# Altium footprint library 002-0081 Rev -.PcbLib: 21 footprints (part 1 of 2)
Each footprint in its own frame and in the unit in brackets; x right, y up, seen from the top. Pads: shape width x height; smd on the part's side, far side on the other; paste and mask are expansions set on the pad; w line width, h text height; cw(c..) or ccw(c..) is an arc to the next point about the centre after c.
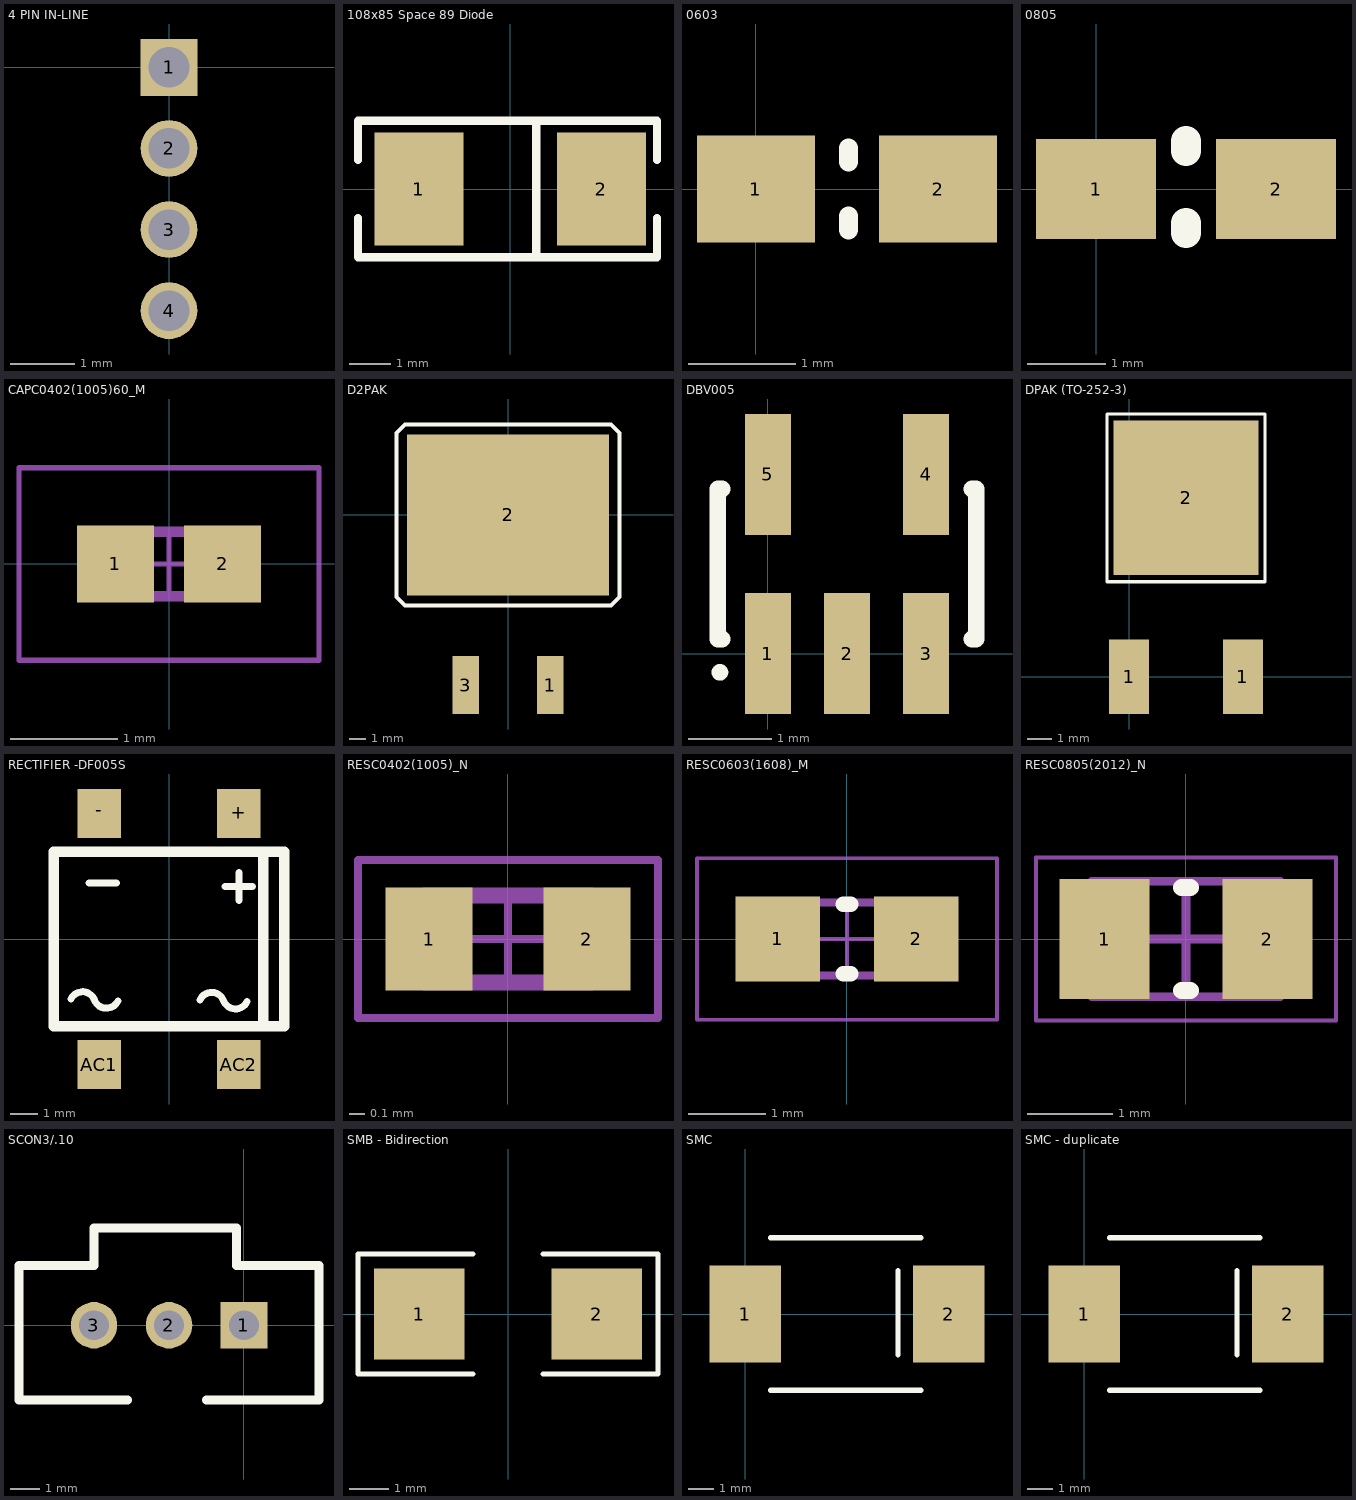
[diagram p0: the footprints below, top view; thin cyan lines are the x and y axes]

## 4 PIN IN-LINE [mil]
pads (4):
  rect 35x35 hole 25: 1(0,0)
  round 35 hole 25: 2(0,-50) 3(0,-100) 4(0,-150)

## 108x85 Space 89 Diode [mil]
height 213
pads (2):
  rect 85x108 smd: 1(-87,0) 2(87,0)
Top Overlay:
  lines w7.87: -145,-27.56 -145,-65 140,-65 140,-27.56 ; -145,27.56 -145,65 140,65 140,27.56 ; 25,-65 25,65

## 0603 [mm] "1.6 x .81 0603 with position tab for component rotation reference"
height 0.762
pads (2):
  rect 1.1x1 smd: 1(0,0) 2(1.7,0)
Top Overlay:
  lines w0.178: 0.864,-0.381 0.864,-0.254 ; 0.864,0.254 0.864,0.381

## 0805 [mil]
height 232
pads (2):
  rect 60x50 smd: 1(0,0) 2(90,0)
Top Overlay:
  lines w15: 45,-22 45,-17 ; 45,19 45,24

## CAPC0402(1005)60_M [mm] "Chip Capacitor, Body 1.0x0.5mm, Height 0.6mm, IPC Low Density"
height 0.6
pads (2):
  rect 0.72x0.72 smd: 1(-0.5,0) 2(0.5,0)
Mechanical 13:
  lines w0.1: -0.55,-0.3 -0.55,0.3 0.55,0.3 0.55,-0.3 -0.55,-0.3
Mechanical 15:
  lines w0.05: -0.3,0 0.3,0 ; 0,-0.3 0,0.3 ; -1.4,-0.9 -1.4,0.9 1.4,0.9 1.4,-0.9 -1.4,-0.9
3D body: height 0.6, standoff 0, extent -0.3,-0.3 0.3,0.3
3D body: height 0.6, standoff 0, extent -0.55,-0.3 -0.3,0.3
3D body: height 0.6, standoff 0, extent 0.3,-0.3 0.55,0.3

## D2PAK [mm]
pads (3):
  rect 1.6x3.5 smd: 1(2.54,-10.275) 3(-2.54,-10.275)
  rect 12.2x9.75 smd: 2(0,0)
Top Overlay:
  lines w0.254: -6.731,-4.953 -6.223,-5.461 6.223,-5.461 6.731,-4.953 6.731,4.953 6.223,5.461 -6.223,5.461 -6.731,4.953 -6.731,-4.953

## DBV005 [mm]
height 1.778
pads (5):
  rect 0.55x1.45 smd: 1(0,0) 2(0.95,0) 3(1.9,0) 4(1.9,2.15) 5(0,2.15)
Top Overlay:
  circle w0.1: c-0.575,-0.225 r0.05
  lines w0.2: -0.55,0.175 -0.6,0.175 -0.6,1.975 -0.55,1.975 ; 2.45,0.175 2.5,0.175 2.5,1.975 2.45,1.975

## DPAK (TO-252-3) [mm]
pads (3):
  rect 1.6x3 smd: 1(0,0) 1(4.572,0)
  rect 5.8x6.2 smd: 2(2.286,7.18)
Top Overlay:
  lines w0.127: -0.889,3.81 5.461,3.81 5.461,10.541 -0.889,10.541 -0.889,3.81

## RECTIFIER -DF005S [mil] "50 Amp Pk - 50 V"
height 157
pads (4):
  rect 63x70 smd: +(100,180) -(-100,180) AC1(-100,-180) AC2(100,-180)
Top Overlay:
  lines w10: -140.6,-86.18 cw(c-123.98,-93.86) -106.7,-87.78 ; -115,80 -75,80 ; -107,-87 ccw(c-89.73,-80.92) -73.1,-88.6 ; 44.4,-87.18 cw(c61.02,-94.86) 78.3,-88.78 ; 78,-88 ccw(c95.27,-81.92) 111.9,-89.6 ; 80,75 120,75 ; 100,55 100,95
  lines w15: 135,-125 135,125 ; -165,-125 165,-125 165,125 -165,125 -165,-125

## RESC0402(1005)_N [mm] "Chip Resistor, Body 1.0x0.5mm, IPC Medium Density"
height 0.4
pads (2):
  rect 0.55x0.65 smd: 1(-0.5,0) 2(0.5,0)
Mechanical 13:
  lines w0.1: -0.525,-0.275 -0.525,0.275 0.525,0.275 0.525,-0.275 -0.525,-0.275
Mechanical 15:
  lines w0.05: -0.275,0 0.275,0 ; 0,-0.275 0,0.275 ; -0.95,-0.5 -0.95,0.5 0.95,0.5 0.95,-0.5 -0.95,-0.5
3D body: height 0.4, standoff 0, extent 0.3,-0.275 0.525,0.275
3D body: height 0.4, standoff 0, extent -0.3,-0.275 0.3,0.275
3D body: height 0.4, standoff 0, extent -0.525,-0.275 -0.3,0.275

## RESC0603(1608)_M [mm] "Chip Resistor, Body 1.6x0.8mm, IPC Low Density"
height 0.6
pads (2):
  rect 1.1x1.1 smd: 1(-0.9,0) 2(0.9,0)
Top Overlay:
  lines w0.2: -0.05,-0.45 0.05,-0.45 ; -0.05,0.45 0.05,0.45
Mechanical 13:
  lines w0.1: -0.85,-0.475 0.85,-0.475 0.85,0.475 -0.85,0.475 -0.85,-0.475
Mechanical 15:
  lines w0.05: -0.475,0 0.475,0 ; 0,-0.475 0,0.475 ; -1.95,-1.05 1.95,-1.05 1.95,1.05 -1.95,1.05 -1.95,-1.05
3D body: height 0.6, standoff 0, extent 0.581,-0.474 0.85,0.475
3D body: height 0.6, standoff 0, extent -0.58,-0.474 0.581,0.475
3D body: height 0.6, standoff 0, extent -0.849,-0.474 -0.58,0.475

## RESC0805(2012)_N [mm] "Chip Resistor, Body 2.0x1.3mm, IPC Medium Density"
height 0.7
pads (2):
  rect 1.05x1.4 smd: 1(-0.95,0) 2(0.95,0)
Top Overlay:
  lines w0.2: -0.05,-0.6 0.05,-0.6 ; -0.05,0.6 0.05,0.6
Mechanical 13:
  lines w0.1: -1.1,-0.675 1.1,-0.675 1.1,0.675 -1.1,0.675 -1.1,-0.675
Mechanical 15:
  lines w0.05: -1.75,-0.95 1.75,-0.95 1.75,0.95 -1.75,0.95 -1.75,-0.95
  lines w0.1: -0.5,0 0.5,0 ; 0,-0.5 0,0.5
3D body: height 0.7, standoff 0, extent -1.1,-0.675 -0.68,0.675
3D body: height 0.7, standoff 0, extent -0.68,-0.675 0.68,0.675
3D body: height 0.7, standoff 0, extent 0.68,-0.675 1.1,0.675

## SCON3/.10 [mil]
height 550
pads (3):
  rect 62x62 hole 39.37: 1(0,0)
  round 62 hole 39.37: 2(-100,0) 3(-200,0)
Top Overlay:
  lines w12: -155.51,-100 -300,-100 -300,80 -200,80 -200,130 -10,130 -10,80 100,80 100,-100 -50.2,-100

## SMB - Bidirection [mm] "DO-214-AA/SMB; 2 C-Bend Leads; Body 5.3 x 3.6 mm, inc. leads (LxW)"
height 2.54
pads (2):
  rect 2.3x2.3 smd: 1(-2.25,0) 2(2.25,0)
Top Overlay:
  lines w0.127: -0.889,-1.524 -3.81,-1.524 -3.81,1.524 -0.889,1.524 ; 0.889,-1.524 3.81,-1.524 3.81,1.524 0.889,1.524

## SMC [mm] "SMC; Case 403 Body 6.8 x 5.8 mm (LxW)"
height 2.54
pads (2):
  rect 2.8x3.8 smd: 1(0,0) 2(8,0)
Top Overlay:
  lines w0.2: 1,-3 6.9,-3 ; 1,3 6.9,3 ; 6,-1.602 6,1.7

## SMC - duplicate [mm] "SMC; Case 403 Body 6.8 x 5.8 mm (LxW)"
height 2.54
pads (2):
  rect 2.8x3.8 smd: 1(0,0) 2(8,0)
Top Overlay:
  lines w0.2: 1,-3 6.9,-3 ; 1,3 6.9,3 ; 6,-1.602 6,1.7